# EAGLE library part ZUMO_MAG (library zumo)
ZUMO Robot Chassis Shield Includes terminals for battery, motors (2), and hall senensors (e.g. AH1751 in SC59 package) and mounting holes. Also indicates areas for through-hole components. Pololu Zumo Chassis <https://www.pololu.com/product/1418>
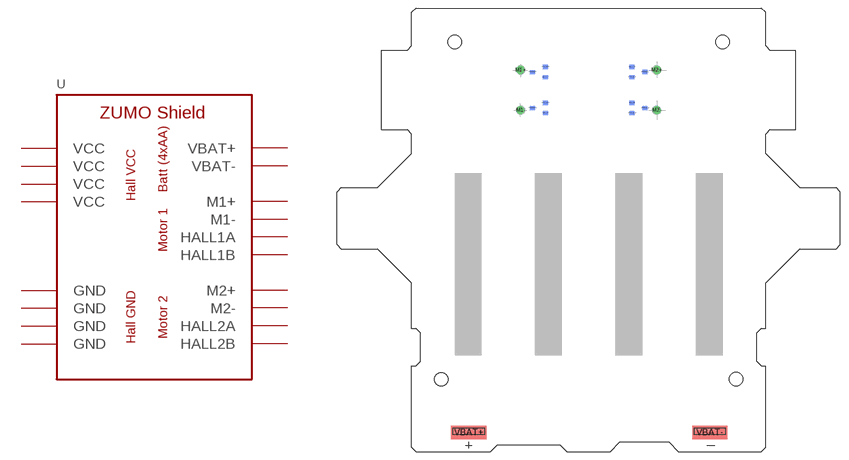
[diagram p0: symbol with the pads of ZUMO_MAG; footprint ZUMO_MAG]

Designator prefix U

## ZUMO_MAG  [ZUMO_MAG]
GND@1  GND  pwr
GND@2  GND  pwr
GND@3  GND  pwr
GND@4  GND  pwr
HALL1A  HALL1A
HALL1B  HALL1B
HALL2A  HALL2A
HALL2B  HALL2B
M1+  M1+
M1-  M1-
M2+  M2+
M2-  M2-
VBAT+  VBAT+
VBAT-  VBAT-
VCC@1  VCC  pwr
VCC@2  VCC  pwr
VCC@3  VCC  pwr
VCC@4  VCC  pwr

## Footprint ZUMO_MAG (pad centres in mm)
smd 0.914 x 0.787 bottom: GND@1 36.525,64.135; GND@2 36.525,70.853; GND@3 57.455,70.866; GND@4 57.48,64.135; HALL1A 38.938,63.195; HALL1B 38.913,69.901; HALL2A 55.067,65.1; HALL2B 55.067,71.806; VCC@1 38.938,65.1; VCC@2 38.913,71.806; VCC@3 55.067,69.901; VCC@4 55.067,63.195
drill 1.016: M1+ 34.29,71.247; M1- 34.29,63.754; M2+ 59.69,71.247; M2- 59.69,63.754
smd 6.604 x 2.54: VBAT+ 24.638,3.556; VBAT- 69.596,3.556
hole 2.5 at 71.984,76.505
hole 2.5 at 74.498,13.513
hole 2.5 at 19.482,13.487
hole 2.5 at 22.022,76.505